# Altium footprint library POWER.PcbLib: 11 footprints
Each footprint in its own frame and in the unit in brackets; x right, y up, seen from the top. Pads: shape width x height; smd on the part's side, far side on the other; paste and mask are expansions set on the pad; w line width, h text height; cw(c..) or ccw(c..) is an arc to the next point about the centre after c.
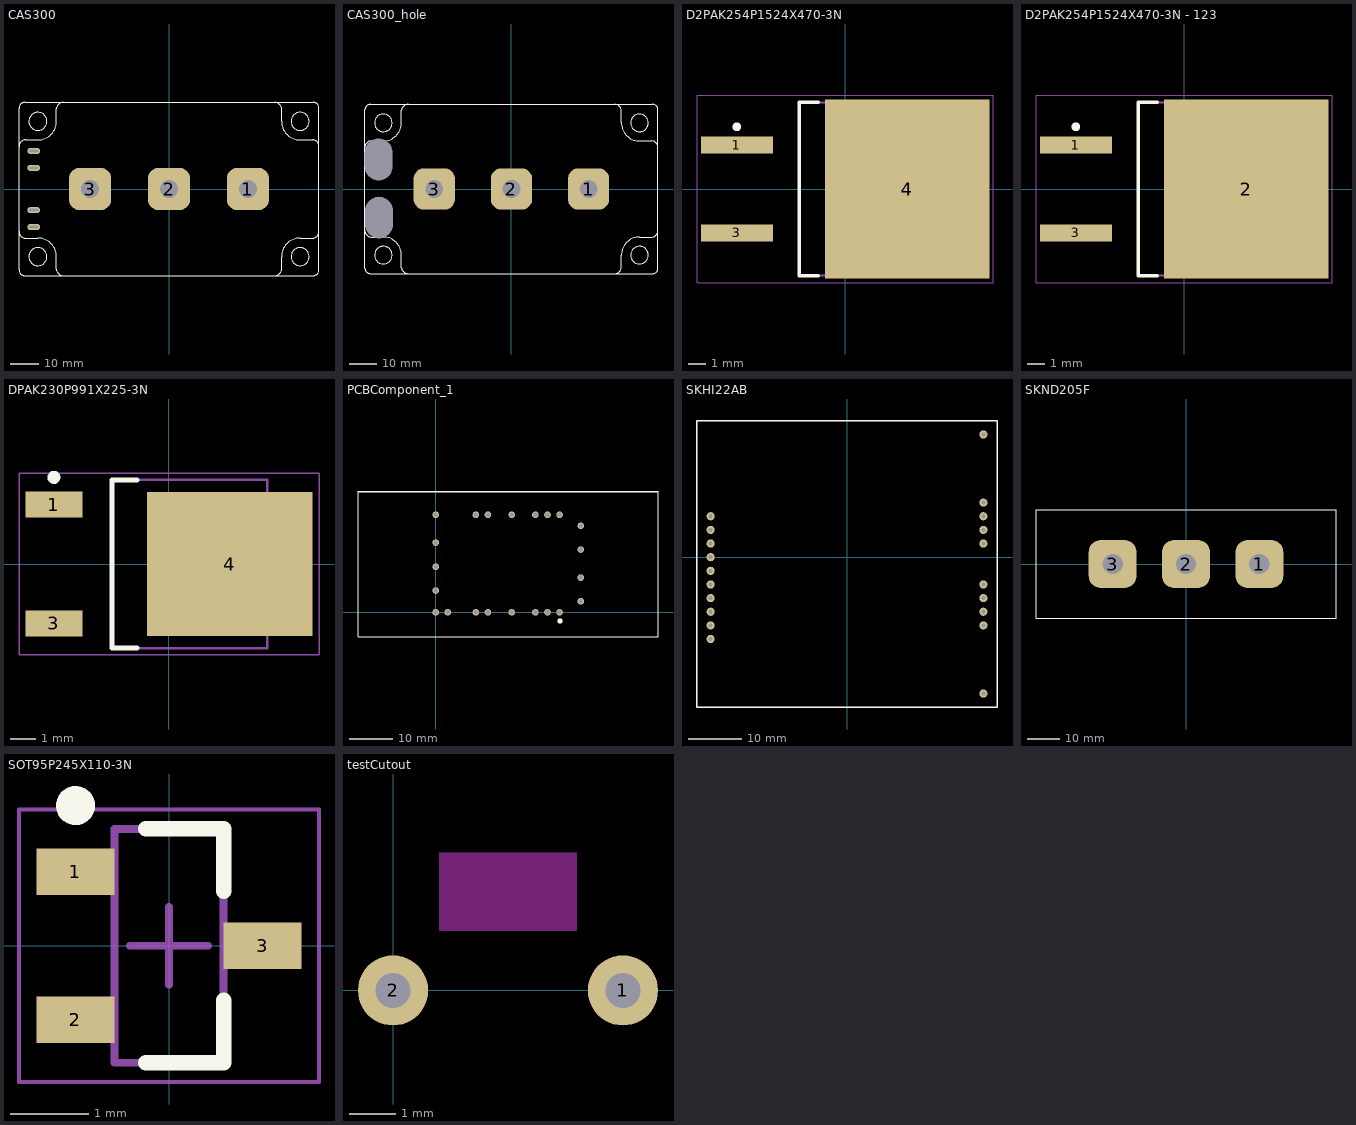
[diagram p0: the footprints below, top view; thin cyan lines are the x and y axes]

## CAS300 [mm]
pads (7):
  rrect50% 15x15 hole 6.4: 1(28,0) 2(0,0) 3(-28,0)
  oval 4.5x2.2 hole 0.9 slot 3.2 at 0 deg: 4(-48,13.5) 5(-48,7.5) 6(-48,-13.5) 7(-48,-7.5)
Top Overlay:
  circle w0.2: c46.5,24 r3.2
  circle w0.2: c46.5,-24 r3.2
  circle w0.2: c-46.5,-24 r3.2
  circle w0.2: c-46.5,24 r3.2
  lines w0.2: -53.2,-15 ccw(c-50.885,-15.115) -51,-17.43 -46.5,-17.43 cw(c-46.5,-24) -39.93,-24 -39.93,-28.5 ccw(c-37.615,-28.385) -37.5,-30.7 ; -53.2,15 cw(c-50.885,15.115) -51,17.43 -46.5,17.43 ccw(c-46.5,24) -39.93,24 -39.93,28.5 cw(c-37.615,28.385) -37.5,30.7 ; 37.5,-30.7 ccw(c37.615,-28.385) 39.93,-28.5 39.93,-24 cw(c46.5,-24) 46.5,-17.43 51,-17.43 ccw(c50.885,-15.115) 53.2,-15 ; 37.5,30.7 cw(c37.615,28.385) 39.93,28.5 39.93,24 ccw(c46.5,24) 46.5,17.43 51,17.43 cw(c50.885,15.115) 53.2,15 ; -53.2,-28.7 ccw(c-51.2,-28.7) -51.2,-30.7 51.2,-30.7 ccw(c51.2,-28.7) 53.2,-28.7 53.2,28.7 ccw(c51.2,28.7) 51.2,30.7 -51.2,30.7 ccw(c-51.2,28.7) -53.2,28.7 -53.2,-28.7
3D body "CAS300.stp": height -0.5, standoff -31, extent -52.873,-30.48 53.127,30.52

## CAS300_hole [mm]
pads (9):
  rrect50% 0x0 hole 15 slot 10 at 0 deg: 0(-48.2,10.7) 0(-48.1,-10.4)
  rrect50% 15x15 hole 6.4: 1(28,0) 2(0,0) 3(-28,0)
  oval 4.5x2.2 hole 0.9 slot 3.2 at 0 deg: 4(-48,13.5) 5(-48,7.5) 6(-48,-13.5) 7(-48,-7.5)
Top Overlay:
  circle w0.2: c-46.5,24 r3.2
  circle w0.2: c-46.5,-24 r3.2
  circle w0.2: c46.5,-24 r3.2
  circle w0.2: c46.5,24 r3.2
  lines w0.2: -53.2,-15 ccw(c-50.885,-15.115) -51,-17.43 -46.5,-17.43 cw(c-46.5,-24) -39.93,-24 -39.93,-28.5 ccw(c-37.615,-28.385) -37.5,-30.7 ; -53.2,15 cw(c-50.885,15.115) -51,17.43 -46.5,17.43 ccw(c-46.5,24) -39.93,24 -39.93,28.5 cw(c-37.615,28.385) -37.5,30.7 ; 37.5,-30.7 ccw(c37.615,-28.385) 39.93,-28.5 39.93,-24 cw(c46.5,-24) 46.5,-17.43 51,-17.43 ccw(c50.885,-15.115) 53.2,-15 ; 37.5,30.7 cw(c37.615,28.385) 39.93,28.5 39.93,24 ccw(c46.5,24) 46.5,17.43 51,17.43 cw(c50.885,15.115) 53.2,15 ; -53.2,-28.7 ccw(c-51.2,-28.7) -51.2,-30.7 51.2,-30.7 ccw(c51.2,-28.7) 53.2,-28.7 53.2,28.7 ccw(c51.2,28.7) 51.2,30.7 -51.2,30.7 ccw(c-51.2,28.7) -53.2,28.7 -53.2,-28.7
3D body "CAS300.stp": height -0.5, standoff -31, extent -52.873,-30.48 53.127,30.52

## D2PAK254P1524X470-3N [mm] "D2-PAK, 3-Pads, Body 7.60x8.36mm (max), IPC Medium Density"
height 4.7
pads (3):
  rect 4.15x1 smd: 1(-6.25,2.54) 3(-6.25,-2.54)
  rect 9.5x10.35 smd: 4(3.6,0)
Top Overlay:
  circle w0.25: c-6.25,3.59 r0.125
  lines w0.2: -1.55,-5 -2.65,-5 -2.65,5 -1.55,5
Mechanical 13:
  lines w0.1: -2.65,-5 -2.65,5 6.35,5 6.35,-5 -2.65,-5
Mechanical 15:
  lines w0.05: -8.55,-5.425 -8.55,5.425 8.55,5.425 8.55,-5.425 -8.55,-5.425
  lines w0.1: -0.5,0 0.5,0 ; 0,-0.5 0,0.5
3D body "D2PAK254P1524X470-3N.step": height 4.7, standoff 0, extent -7.24,-5 8,5

## D2PAK254P1524X470-3N - 123 [mm] "D2-PAK, 3-Pads, Body 7.60x8.36mm (max), IPC Medium Density"
height 4.7
pads (3):
  rect 4.15x1 smd: 1(-6.25,2.54) 3(-6.25,-2.54)
  rect 9.5x10.35 smd: 2(3.6,0)
Top Overlay:
  circle w0.25: c-6.25,3.59 r0.125
  lines w0.2: -1.55,-5 -2.65,-5 -2.65,5 -1.55,5
Mechanical 13:
  lines w0.1: -2.65,-5 -2.65,5 6.35,5 6.35,-5 -2.65,-5
Mechanical 15:
  lines w0.05: -8.55,-5.425 -8.55,5.425 8.55,5.425 8.55,-5.425 -8.55,-5.425
  lines w0.1: -0.5,0 0.5,0 ; 0,-0.5 0,0.5
3D body "D2PAK254P1524X470-3N.step": height 4.7, standoff 0, extent -7.24,-5 8,5

## DPAK230P991X225-3N [mm] "D-PAK, 3-Pads, Body 6.10x6.61mm (max), IPC Medium Density"
height 2.25
pads (3):
  rect 2.2x1 smd: 1(-4.45,2.3) 3(-4.45,-2.3)
  rect 6.4x5.55 smd: 4(2.35,0)
Top Overlay:
  circle w0.25: c-4.45,3.35 r0.125
  lines w0.2: -1.25,-3.25 -2.2,-3.25 -2.2,3.25 -1.25,3.25
Mechanical 13:
  lines w0.1: -2.2,-3.25 -2.2,3.25 3.8,3.25 3.8,-3.25 -2.2,-3.25
Mechanical 15:
  lines w0.05: -5.8,-3.5 -5.8,3.5 5.8,3.5 5.8,-3.5 -5.8,-3.5
  lines w0.1: -0.5,0 0.5,0 ; 0,-0.5 0,0.5
3D body "DPAK230P991X225-3N.step": height 2.25, standoff 0, extent -4.52,-3.25 5.385,3.25

## MosfetDriver1.0 [mm] "WipowerOne Mosfet Driver"
3D body "500regDrv.step": height 30.35, standoff 3.4, extent -11,-3.419 11,3.4

## PCBComponent_1 [mm]
pads (22):
  round 1.524 hole 1.1: 1(28.7,0) 2(25.9,0) 3(23.1,0) 4(17.6,0) 5(12.1,0) 6(9.3,0) 7(2.8,0) 8(0,0) 9(0,5.05) 10(0,10.55) 11(0,16.15) 12(0,22.6) 13(9.3,22.6) 14(12.1,22.6) 15(17.6,22.6) 16(23.1,22.6) 17(25.9,22.6) 18(28.7,22.6) 19(33.6,20.05) 20(33.6,14.55) 21(33.6,8.05) 22(33.6,2.55)
Top Overlay:
  circle w0.554: c28.8,-2 r0.3
  lines w0.254: -18,-5.5 -18,28 51.5,28 51.5,-5.5 ; -18,-5.6 51.5,-5.6 51.5,27.9 -18,27.9 -18,-5.6
Bottom Overlay:
  lines w0.254: -18,-5.5 51.5,-5.5
3D body: height 0.25, standoff 0, extent 16.3,14.9 16.3,14.9
3D body "_fileadmin_user_upload_product_media_Vincotech_Flow0-2C12W-P890_220-01-OL.stp": height 12.15, standoff -4.13, extent -17.399,-4.95 50.999,27.55
3D body: height 0.25, standoff 0, extent 24.1,10 24.1,10
3D body: height 0.25, standoff 0, extent 16.2,15.95 16.2,15.95
3D body: height 0.25, standoff 0, extent 16.3,16.7 16.3,16.7
3D body: height 0.25, standoff 0, extent 17.4,17.4 17.4,17.4
3D body: height 0.25, standoff 0, extent 12.8,11.9 12.8,11.9

## SKHI22AB [mil]
pads (20):
  round 60 hole 30: P5(-1000,-600) P6(-1000,-500) P7(-1000,-400) P8(-1000,-300) P9(-1000,-200) P10(-1000,-100) P11(-1000,0) P12(-1000,100) P13(-1000,200) P14(-1000,300) S1(1000,-1000) S6(1000,-500) S7(1000,-400) S8(1000,-300) S9(1000,-200) S12(1000,100) S13(1000,200) S14(1000,300) S15(1000,400) S20(1000,900)
Top Overlay:
  lines w10: -1100,-1100 1100,-1100 1100,1000 1000,1000 -900,1000 -1100,1000 -1100,-1100
3D body: height 393.7, standoff 0, extent -1100,-1100 1100,1000

## SKND205F [mm]
pads (3):
  rrect50% 15x15 hole 6.4: 1(23,0) 2(0,0) 3(-23,0)
Top Overlay:
  lines w0.254: -47,0 -47,17 47,17 47,-17 -47,-17 -47,0.5
3D body "BSM200GB60DLC_Diode.STEP": height 30.5, standoff -0.03, extent -46.452,-16.98 47.452,16.98

## SOT95P245X110-3N [mm] "SOT23, 3-Leads, Body 2.90x2.45mm, Pitch 0.95mm, IPC Medium Density"
height 1.1
pads (3):
  rect 1x0.6 smd: 1(-1.2,0.95) 2(-1.2,-0.95) 3(1.2,0)
Top Overlay:
  circle w0.25: c-1.2,1.8 r0.125
  lines w0.2: -0.3,-1.5 0.7,-1.5 0.7,-0.7 ; -0.3,1.5 0.7,1.5 0.7,0.7
Mechanical 13:
  lines w0.1: -0.7,-1.5 0.7,-1.5 0.7,1.5 -0.7,1.5 -0.7,-1.5
Mechanical 15:
  lines w0.05: -1.925,-1.75 1.925,-1.75 1.925,1.75 -1.925,1.75 -1.925,-1.75
  lines w0.1: -0.5,0 0.5,0 ; 0,-0.5 0,0.5
3D body "SOT95P245X110-3N.step": height 1.1, standoff 0, extent -1.3,-1.5 1.3,1.5

## testCutout [mil]
pads (2):
  round 60 hole 30: 1(196.85,0) 2(0,0)
Keep-Out Layer:
  board cut-out: 39.37,118.11 39.37,51.18 157.48,51.18 157.48,118.11